# EAGLE library part MCP45HV51-103E_ST (library MCP45HV51-103E_ST)
10K Dig.Potentiometer 256 I2C VM TSSOP14 MCP45HV51-103E/ST, Digital Potentiometer 10k 256-Position Linear Serial-I2C 14-Pin TSSOP Source: Datasheet <http://www.microchip.com/mymicrochip/filehandler.aspx?ddocname=en569827>
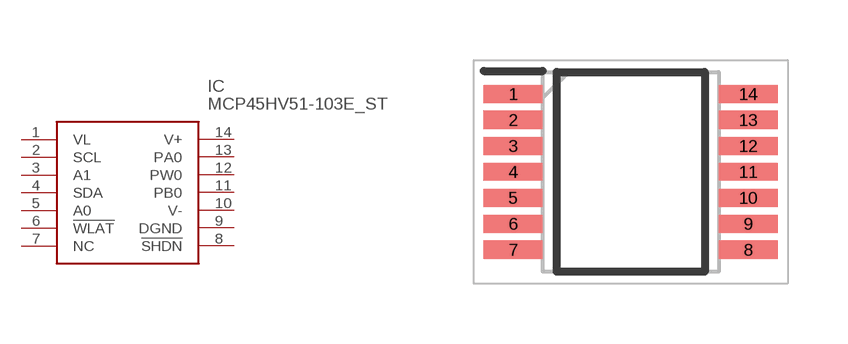
[diagram p0: symbol with the pads of SOP65P640X120-14N; footprint SOP65P640X120-14N]

Designator prefix IC

## MCP45HV51-103E_ST (Description: 10K Dig.Potentiometer 256 I2C VM TSSOP14 MCP45HV51-103E/ST, Digital Potentiometer 10k 256-Position Linear Serial-I2C 14-Pin TSSOP; Height: 1.2mm; Manufacturer_Name: Microchip; Manufacturer_Part_Number: MCP45HV51-103E/ST; Mouser_Part_Number: 579-MCP45HV51-103EST; Mouser_Price-Stock: https://www.mouser.co.uk/ProductDetail/Microchip-Technology/MCP45HV51-103E-ST?qs=wzzOUr4NhYpIXHuCsSah1A%3D%3D)  [SOP65P640X120-14N]
1  VL
2  SCL
3  A1
4  SDA
5  A0
6  !WLAT
7  NC  nc
8  !SHDN
9  DGND
10  V-
11  PB0
12  PW0
13  PA0
14  V+

## Footprint SOP65P640X120-14N (pad centres in mm)
(ST)14-Lead(TSSOP)
smd 1.475 x 0.45: 1 -2.938,1.95; 2 -2.938,1.3; 3 -2.938,0.65; 4 -2.938,0; 5 -2.938,-0.65; 6 -2.938,-1.3; 7 -2.938,-1.95; 8 2.938,-1.95; 9 2.938,-1.3; 10 2.938,-0.65; 11 2.938,0; 12 2.938,0.65; 13 2.938,1.3; 14 2.938,1.95